# Altium footprint library CN_TERMINALSTRIP_5P.PcbLib: 1 footprints
Each footprint in its own frame and in the unit in brackets; x right, y up, seen from the top. Pads: shape width x height; smd on the part's side, far side on the other; paste and mask are expansions set on the pad; w line width, h text height; cw(c..) or ccw(c..) is an arc to the next point about the centre after c.
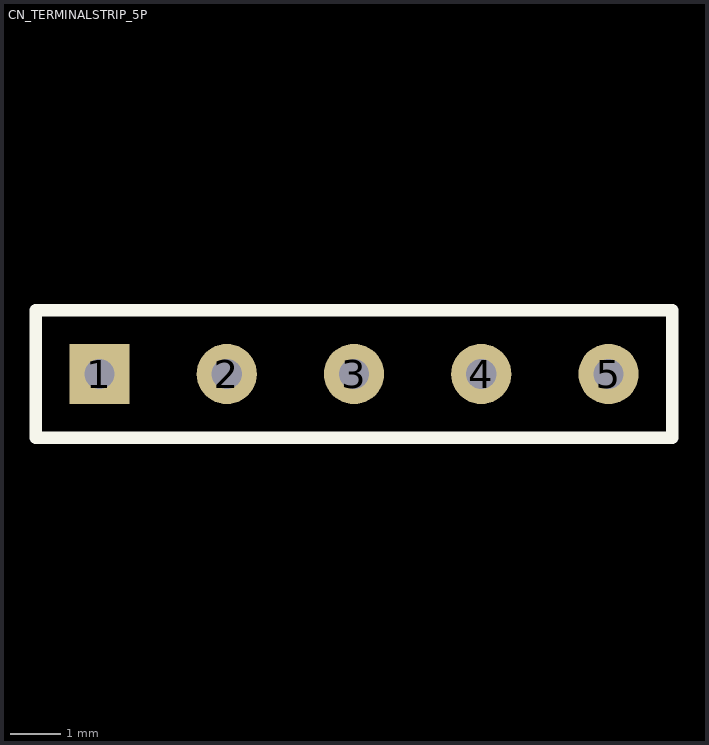
[diagram p0: the footprint, top view; thin cyan lines are the x and y axes]

## CN_TERMINALSTRIP_5P [mm] "TS-105-G-A"
pads (5):
  rect 1.2x1.2 hole 0.6: 1(-1043.94,-797.56)
  round 1.2 hole 0.6: 2(-1041.4,-797.56) 3(-1038.86,-797.56) 4(-1036.32,-797.56) 5(-1033.78,-797.56)
Top Overlay:
  lines w0.254: -1045.21,-798.83 -1032.51,-798.83 -1032.51,-796.29 -1045.21,-796.29 -1045.21,-798.83